# EAGLE library part N_C3-01_LCD_CONN (library cruz_technologies)
Nokia C3-01 and X3-02 LCD connector
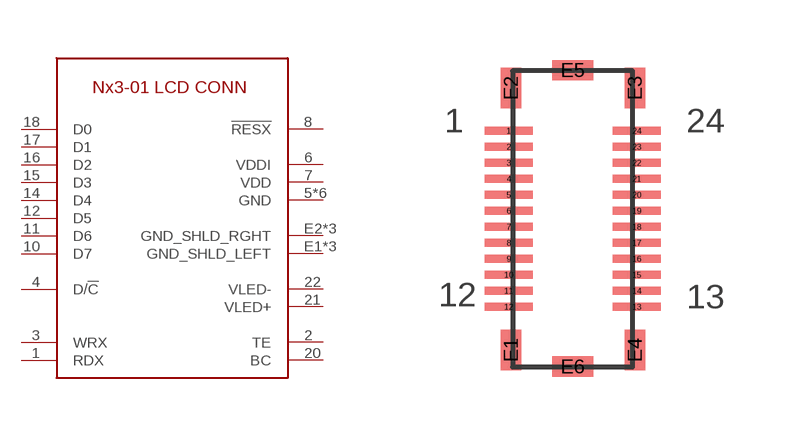
[diagram p3: symbol with the pads of N_C3-01_LCD_CONN; footprint N_C3-01_LCD_CONN]

Designator prefix -

## N_C3-01_LCD_CONN  [N_C3-01_LCD_CONN]
1  RDX  in
2  TE  out
3  WRX  in
4  D/!C  in
5  GND  pwr
6  VDDI  pwr
7  VDD  pwr
8  !RESX  in
9  GND  pwr
10  D7
11  D6
12  D5
13  GND  pwr
14  D4
15  D3
16  D2
17  D1
18  D0
19  GND  pwr
20  BC
21  VLED+
22  VLED-
23  GND  pwr
24  GND  pwr
E1  GND_SHLD_LEFT
E2  GND_SHLD_RGHT
E3  GND_SHLD_RGHT
E4  GND_SHLD_LEFT
E5  GND_SHLD_RGHT
E6  GND_SHLD_LEFT

## Footprint N_C3-01_LCD_CONN (pad centres in mm)
Nokia C3-01 and X3-02 LCD connector
smd 1.2 x 0.2: 1 -1.6,2.34; 2 -1.6,1.94; 3 -1.6,1.54; 4 -1.6,1.14; 5 -1.6,0.74; 6 -1.6,0.34; 7 -1.6,-0.06; 8 -1.6,-0.46; 9 -1.6,-0.86; 10 -1.6,-1.26; 11 -1.6,-1.66; 12 -1.6,-2.06; 13 1.6,-2.06; 14 1.6,-1.66; 15 1.6,-1.26; 16 1.6,-0.86; 17 1.6,-0.46; 18 1.6,-0.06; 19 1.6,0.34; 20 1.6,0.74; 21 1.6,1.14; 22 1.6,1.54; 23 1.6,1.94; 24 1.6,2.34
smd 0.508 x 1.016: E1 -1.545,-3.14; E2 -1.545,3.41; E3 1.555,3.41; E4 1.555,-3.14
smd 1.016 x 0.508: E5 0,3.855; E6 0,-3.555